# EAGLE library part ATSAMC20E18 (library AR_mcu)
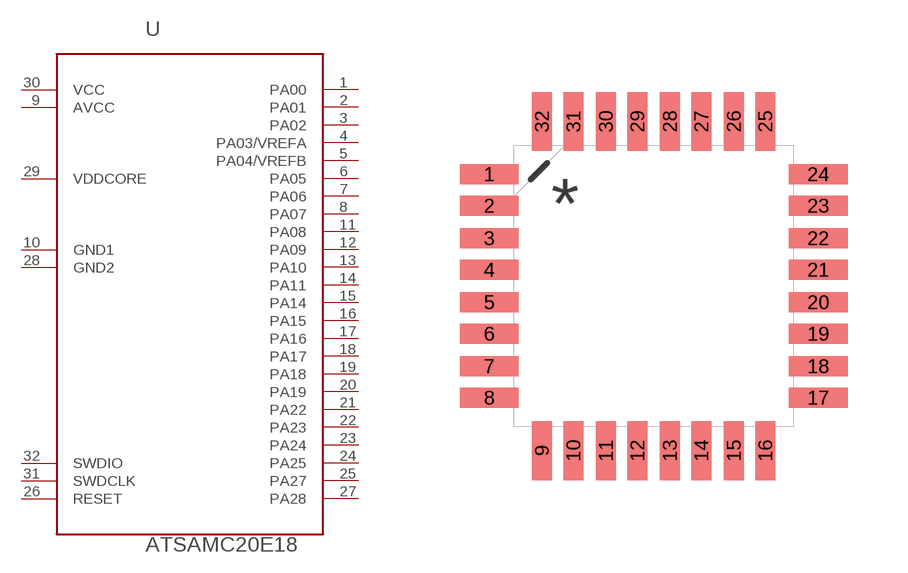
[diagram p0: symbol with the pads of 32-TQFP; footprint 32-TQFP]

Designator prefix -

## ATSAMC20E1832-TQFP  [32-TQFP]
1  PA00
2  PA01
3  PA02
4  PA03/VREFA
5  PA04/VREFB
6  PA05
7  PA06
8  PA07
9  AVCC  pwr
10  GND1  pas
11  PA08
12  PA09
13  PA10
14  PA11
15  PA14
16  PA15
17  PA16
18  PA17
19  PA18
20  PA19
21  PA22
22  PA23
23  PA24
24  PA25
25  PA27
26  RESET
27  PA28
28  GND2  pas
29  VDDCORE  pwr
30  VCC  pwr
31  SWDCLK
32  SWDIO

## Footprint 32-TQFP (pad centres in mm)
smd 1.473 x 0.508: 1 -4.115,2.794; 2 -4.115,2.007; 3 -4.115,1.194; 4 -4.115,0.406; 5 -4.115,-0.406; 6 -4.115,-1.194; 7 -4.115,-2.007; 8 -4.115,-2.794; 17 4.115,-2.794; 18 4.115,-2.007; 19 4.115,-1.194; 20 4.115,-0.406; 21 4.115,0.406; 22 4.115,1.194; 23 4.115,2.007; 24 4.115,2.794
smd 0.508 x 1.473: 9 -2.794,-4.115; 10 -2.007,-4.115; 11 -1.194,-4.115; 12 -0.406,-4.115; 13 0.406,-4.115; 14 1.194,-4.115; 15 2.007,-4.115; 16 2.794,-4.115; 25 2.794,4.115; 26 2.007,4.115; 27 1.194,4.115; 28 0.406,4.115; 29 -0.406,4.115; 30 -1.194,4.115; 31 -2.007,4.115; 32 -2.794,4.115